# EAGLE library part LTC4067 (library LTC4067)
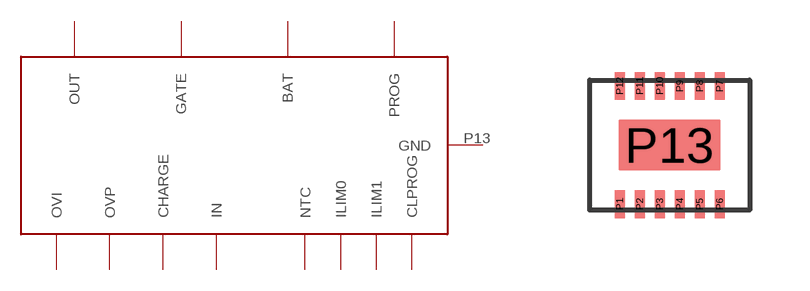
[diagram p0: symbol with the pads of DFN-12; footprint DFN-12]

Designator prefix -

## LTC4067  [DFN-12]
P1  CLPROG
P2  CHARGE
P3  NTC
P4  ILIM0
P5  ILIM1
P6  OVI
P7  OVP
P8  PROG
P9  GATE
P10  BAT
P11  OUT
P12  IN
P13  GND

## Footprint DFN-12 (pad centres in mm)
smd 0.25 x 0.7: P1 -1.25,-1.477; P2 -0.75,-1.477; P3 -0.25,-1.477; P4 0.25,-1.477; P5 0.75,-1.477; P6 1.25,-1.477; P7 1.25,1.477; P8 0.75,1.477; P9 0.25,1.477; P10 -0.25,1.477; P11 -0.75,1.477; P12 -1.25,1.477
smd 2.54 x 1.27: P13 0,0